# EAGLE library part MPU6050 (library PA(EN)_Components_Library)
IMU ACCEL/GYRO 3-AXIS I2C
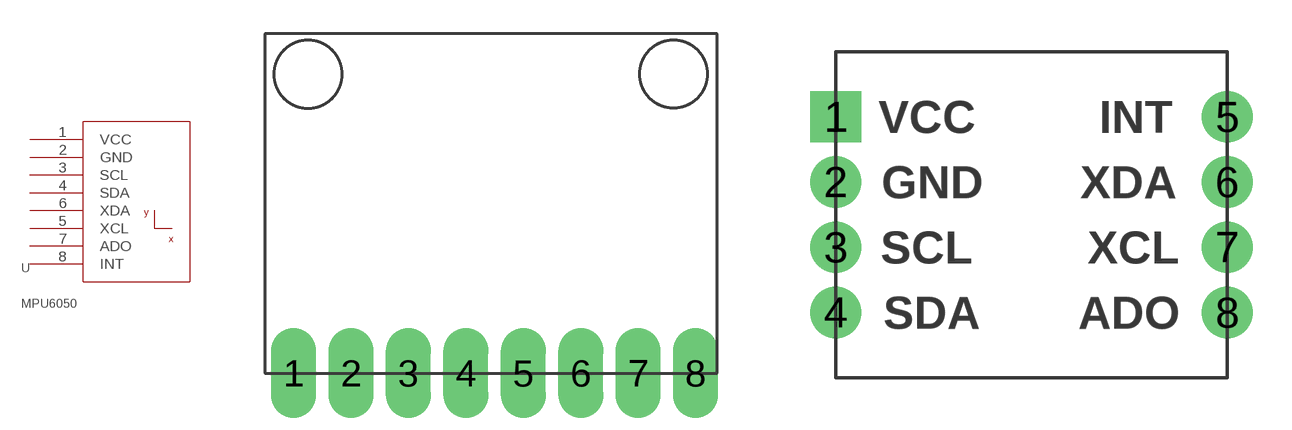
[diagram p30: symbol with the pads of MPU6050; footprints MPU6050, MPU6050-2]

Designator prefix U

## MPU6050MPU6050  [MPU6050]
1  VCC  pas
2  GND  pas
3  SCL  pas
4  SDA  pas
5  XCL  pas
6  XDA  pas
7  ADO  pas
8  INT  pas

## MPU6050MPU6050_MINI  [MPU6050-2]
1  VCC  pas
2  GND  pas
3  SCL  pas
4  SDA  pas
5  XDA  pas
6  XCL  pas
7  ADO  pas
8  INT  pas

## Footprint MPU6050 (pad centres in mm)
drill 1 pad 2 long: 1 1.27,0; 2 3.81,0; 3 6.35,0; 4 8.89,0; 5 11.43,0; 6 13.97,0; 7 16.51,0; 8 19.05,0

## Footprint MPU6050-2 (pad centres in mm)
drill 1 pad 2 square: 1 0,10.16
drill 1 pad 2: 2 0,7.62; 3 0,5.08; 4 0,2.54; 5 15.24,10.16; 6 15.24,7.62; 7 15.24,5.08; 8 15.24,2.54